# Altium schematic symbol library SnapEDAsch.SchLib: 1 symbol
Pins are listed as number, name and electrical type; pins without a type are passive.

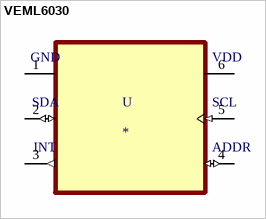
[diagram p0: symbol VEML6030]

## VEML6030
designator U
Optical Sensor Ambient 550nm IÂ²C 6-SMD, No Lead; MF: Vishay; MP: VEML6030; Value: *; Price: None; Package: SMD-6 Vishay; SnapEDA_Link: https://www.snapeda.com/parts/VEML6030/Vishay%20Semiconductor%20Opto%20Division/view-part/493148/?ref=snap; Availability: Unavailable
footprint VISHAY_VEML6030_2X2X0.87
pins: 1 GND (power), 2 SDA (io), 3 INT (out), 4 ADDR (io), 5 SCL (in), 6 VDD (power)